# Altium schematic symbol library SCH - MCU - NUVOTON - NUVOTON M031SD2AE.SchLib: 1 symbol
Pins are listed as number, name and electrical type; pins without a type are passive.

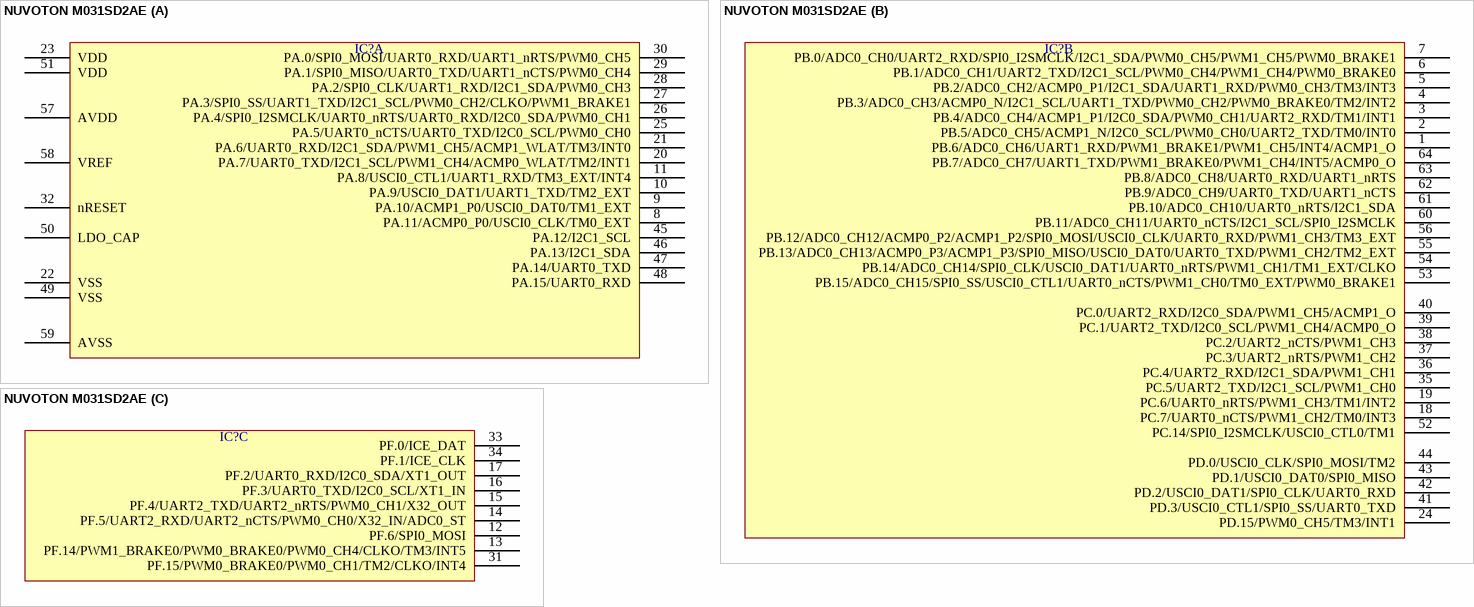
[diagram p0: symbol NUVOTON M031SD2AE]

## NUVOTON M031SD2AE
designator IC?  (value not drawn)
part A pins: 8 PA.11/ACMP0_P0/USCI0_CLK/TM0_EXT, 9 PA.10/ACMP1_P0/USCI0_DAT0/TM1_EXT, 10 PA.9/USCI0_DAT1/UART1_TXD/TM2_EXT, 11 PA.8/USCI0_CTL1/UART1_RXD/TM3_EXT/INT4, 20 PA.7/UART0_TXD/I2C1_SCL/PWM1_CH4/ACMP0_WLAT/TM2/INT1, 21 PA.6/UART0_RXD/I2C1_SDA/PWM1_CH5/ACMP1_WLAT/TM3/INT0, 22 VSS, 23 VDD, 25 PA.5/UART0_nCTS/UART0_TXD/I2C0_SCL/PWM0_CH0, 26 PA.4/SPI0_I2SMCLK/UART0_nRTS/UART0_RXD/I2C0_SDA/PWM0_CH1, 27 PA.3/SPI0_SS/UART1_TXD/I2C1_SCL/PWM0_CH2/CLKO/PWM1_BRAKE1, 28 PA.2/SPI0_CLK/UART1_RXD/I2C1_SDA/PWM0_CH3, 29 PA.1/SPI0_MISO/UART0_TXD/UART1_nCTS/PWM0_CH4, 30 PA.0/SPI0_MOSI/UART0_RXD/UART1_nRTS/PWM0_CH5, 32 nRESET, 45 PA.12/I2C1_SCL, 46 PA.13/I2C1_SDA, 47 PA.14/UART0_TXD, 48 PA.15/UART0_RXD, 49 VSS, 50 LDO_CAP, 51 VDD, 57 AVDD, 58 VREF, 59 AVSS
part B pins: 1 PB.6/ADC0_CH6/UART1_RXD/PWM1_BRAKE1/PWM1_CH5/INT4/ACMP1_O, 2 PB.5/ADC0_CH5/ACMP1_N/I2C0_SCL/PWM0_CH0/UART2_TXD/TM0/INT0, 3 PB.4/ADC0_CH4/ACMP1_P1/I2C0_SDA/PWM0_CH1/UART2_RXD/TM1/INT1, 4 PB.3/ADC0_CH3/ACMP0_N/I2C1_SCL/UART1_TXD/PWM0_CH2/PWM0_BRAKE0/TM2/INT2, 5 PB.2/ADC0_CH2/ACMP0_P1/I2C1_SDA/UART1_RXD/PWM0_CH3/TM3/INT3, 6 PB.1/ADC0_CH1/UART2_TXD/I2C1_SCL/PWM0_CH4/PWM1_CH4/PWM0_BRAKE0, 7 PB.0/ADC0_CH0/UART2_RXD/SPI0_I2SMCLK/I2C1_SDA/PWM0_CH5/PWM1_CH5/PWM0_BRAKE1, 18 PC.7/UART0_nCTS/PWM1_CH2/TM0/INT3, 19 PC.6/UART0_nRTS/PWM1_CH3/TM1/INT2, 24 PD.15/PWM0_CH5/TM3/INT1, 35 PC.5/UART2_TXD/I2C1_SCL/PWM1_CH0, 36 PC.4/UART2_RXD/I2C1_SDA/PWM1_CH1, 37 PC.3/UART2_nRTS/PWM1_CH2, 38 PC.2/UART2_nCTS/PWM1_CH3, 39 PC.1/UART2_TXD/I2C0_SCL/PWM1_CH4/ACMP0_O, 40 PC.0/UART2_RXD/I2C0_SDA/PWM1_CH5/ACMP1_O, 41 PD.3/USCI0_CTL1/SPI0_SS/UART0_TXD, 42 PD.2/USCI0_DAT1/SPI0_CLK/UART0_RXD, 43 PD.1/USCI0_DAT0/SPI0_MISO, 44 PD.0/USCI0_CLK/SPI0_MOSI/TM2, 52 PC.14/SPI0_I2SMCLK/USCI0_CTL0/TM1, 53 PB.15/ADC0_CH15/SPI0_SS/USCI0_CTL1/UART0_nCTS/PWM1_CH0/TM0_EXT/PWM0_BRAKE1, 54 PB.14/ADC0_CH14/SPI0_CLK/USCI0_DAT1/UART0_nRTS/PWM1_CH1/TM1_EXT/CLKO, 55 PB.13/ADC0_CH13/ACMP0_P3/ACMP1_P3/SPI0_MISO/USCI0_DAT0/UART0_TXD/PWM1_CH2/TM2_EXT, 56 PB.12/ADC0_CH12/ACMP0_P2/ACMP1_P2/SPI0_MOSI/USCI0_CLK/UART0_RXD/PWM1_CH3/TM3_EXT, 60 PB.11/ADC0_CH11/UART0_nCTS/I2C1_SCL/SPI0_I2SMCLK, 61 PB.10/ADC0_CH10/UART0_nRTS/I2C1_SDA, 62 PB.9/ADC0_CH9/UART0_TXD/UART1_nCTS, 63 PB.8/ADC0_CH8/UART0_RXD/UART1_nRTS, 64 PB.7/ADC0_CH7/UART1_TXD/PWM1_BRAKE0/PWM1_CH4/INT5/ACMP0_O
part C pins: 12 PF.6/SPI0_MOSI, 13 PF.14/PWM1_BRAKE0/PWM0_BRAKE0/PWM0_CH4/CLKO/TM3/INT5, 14 PF.5/UART2_RXD/UART2_nCTS/PWM0_CH0/X32_IN/ADC0_ST, 15 PF.4/UART2_TXD/UART2_nRTS/PWM0_CH1/X32_OUT, 16 PF.3/UART0_TXD/I2C0_SCL/XT1_IN, 17 PF.2/UART0_RXD/I2C0_SDA/XT1_OUT, 31 PF.15/PWM0_BRAKE0/PWM0_CH1/TM2/CLKO/INT4, 33 PF.0/ICE_DAT, 34 PF.1/ICE_CLK